# EAGLE library part FFC14 (library dan-ffc)
FFC (flat flex cable) connector - 14 positions
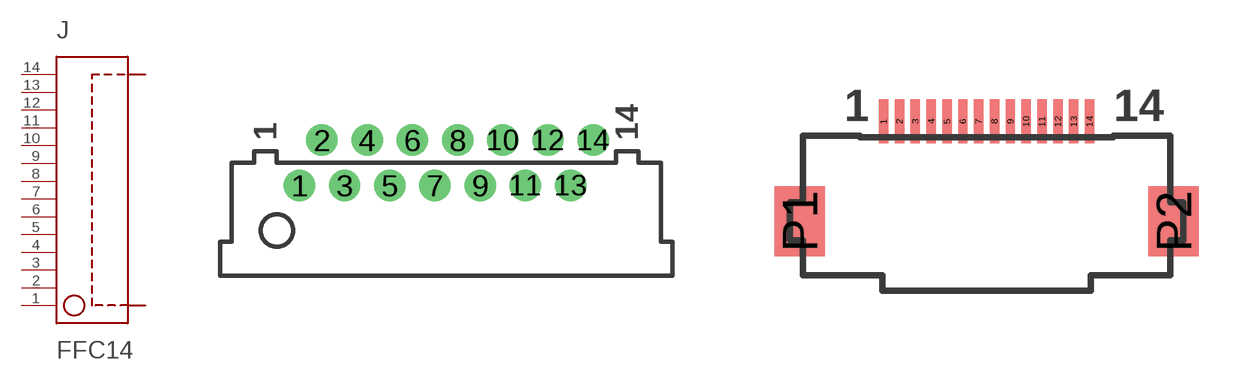
[diagram p2: symbol with the pads of SLW14R-1C7LF; footprints SLW14R-1C7LF, MOLEX-52892-1495]

Designator prefix J

## FFC14-SLW14R-1C7LF  [SLW14R-1C7LF]
1  P$1  pas
2  P$2  pas
3  P$3  pas
4  P$4  pas
5  P$5  pas
6  P$6  pas
7  P$7  pas
8  P$8  pas
9  P$9  pas
10  P$10  pas
11  P$11  pas
12  P$12  pas
13  P$13  pas
14  P$14  pas

## FFC14-52892-1495  [MOLEX-52892-1495]
Pads as for SLW14R-1C7LF

## Footprint SLW14R-1C7LF (pad centres in mm)
SLW14R-1C7LF 1mm pitch flat-flex (FFC) connector; 14 position, right-angle, zero-insertion-force
drill 0.85 pad 1.39 round: 1 -6.5,-1; 2 -5.5,1; 3 -4.5,-1; 4 -3.5,1; 5 -2.5,-1; 6 -1.5,1; 7 -0.5,-1; 8 0.5,1; 9 1.5,-1; 10 2.5,1; 11 3.5,-1; 12 4.5,1; 13 5.5,-1; 14 6.5,1

## Footprint MOLEX-52892-1495 (pad centres in mm)
Molex 52892-1495 14 conductor, 0.5mm, right-angle, surface-mount From: http://www.molex.com/pdm_docs/sd/528923095_sd.pdf
smd 0.297 x 1.4: 1 -3.25,0; 2 -2.75,0; 3 -2.25,0; 4 -1.75,0; 5 -1.25,0; 6 -0.75,0; 7 -0.25,0; 8 0.25,0; 9 0.75,0; 10 1.25,0; 11 1.75,0; 12 2.25,0; 13 2.75,0; 14 3.25,0
smd 1.6 x 2.2: P1 -5.9,-3.15; P2 5.9,-3.15